# EAGLE library part 74LS353 (library HRL)
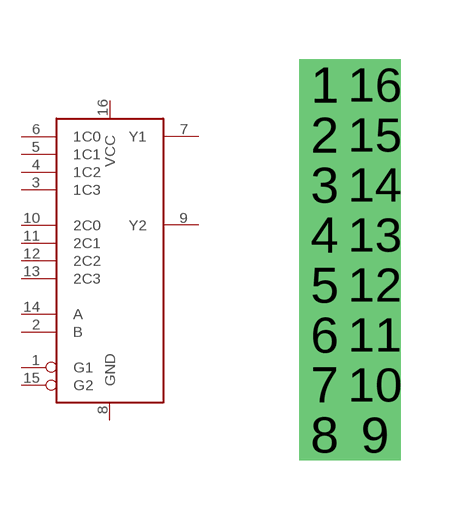
[diagram p0: symbol with the pads of 74LS353; footprint 74LS353]

Designator prefix U

## 74LS353  [74LS353]
1  G1
2  B
3  1C3
4  1C2
5  1C1
6  1C0
7  Y1
8  GND
9  Y2
10  2C0
11  2C1
12  2C2
13  2C3
14  A
15  G2
16  VCC

## Footprint 74LS353 (pad centres in mm)
drill 0.8 square: 1 1.27,10.16; 2 1.27,8.89; 3 1.27,7.62; 4 1.27,6.35; 5 1.27,5.08; 6 1.27,3.81; 7 1.27,2.54; 8 1.27,1.27; 9 2.54,1.27; 10 2.54,2.54; 11 2.54,3.81; 12 2.54,5.08; 13 2.54,6.35; 14 2.54,7.62; 15 2.54,8.89; 16 2.54,10.16